# Altium schematic symbol library SCH - EEPROM - MAC.SCHLIB: 1 symbol
Pins are listed as number, name and electrical type; pins without a type are passive.

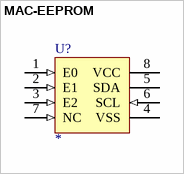
[diagram p0: symbol MAC-EEPROM]

## MAC-EEPROM
designator U?
pins: 1 E0 (in), 2 E1 (in), 3 E2 (in), 4 VSS (power), 5 SDA (oc), 6 SCL (in), 7 NC (in), 8 VCC (power)